# Altium footprint library PcbLib1.PcbLib: 4 footprints
Each footprint in its own frame and in the unit in brackets; x right, y up, seen from the top. Pads: shape width x height; smd on the part's side, far side on the other; paste and mask are expansions set on the pad; w line width, h text height; cw(c..) or ccw(c..) is an arc to the next point about the centre after c.
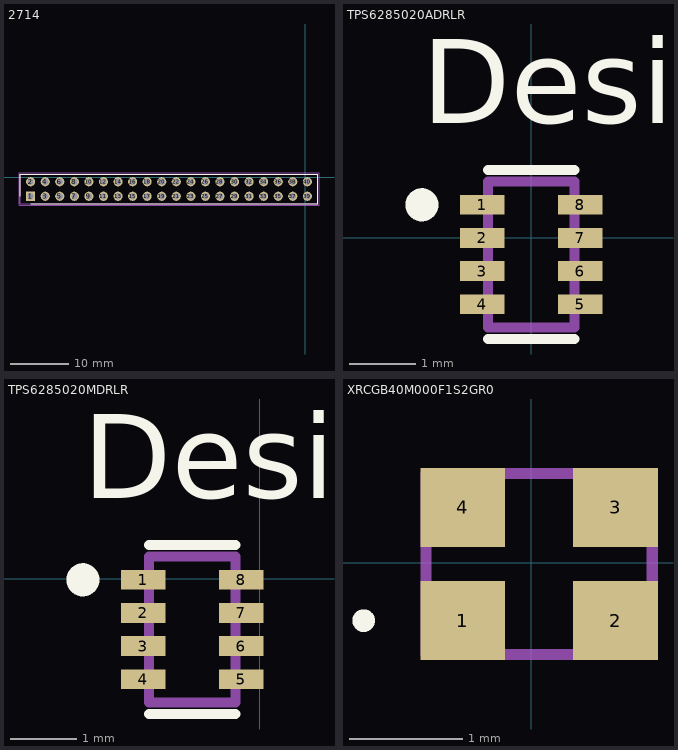
[diagram p0: the footprints below, top view; thin cyan lines are the x and y axes]

## 2714 [mm]
pads (40):
  rect 1.575x1.575 / inner round 1.575 / far side rect 1.575x1.575 hole 1.05: 1(-47.117,-3.302)
  round 1.575 hole 1.05: 2(-47.117,-0.802) 3(-44.617,-3.302) 4(-44.617,-0.802) 5(-42.117,-3.302) 6(-42.117,-0.802) 7(-39.617,-3.302) 8(-39.617,-0.802) 9(-37.117,-3.302) 10(-37.117,-0.802) 11(-34.617,-3.302) 12(-34.617,-0.802) 13(-32.117,-3.302) 14(-32.117,-0.802) 15(-29.617,-3.302) 16(-29.617,-0.802) 17(-27.117,-3.302) 18(-27.117,-0.802) 19(-24.617,-3.302) 20(-24.617,-0.802) 21(-22.117,-3.302) 22(-22.117,-0.802) 23(-19.617,-3.302) 24(-19.617,-0.802) 25(-17.117,-3.302) 26(-17.117,-0.802) 27(-14.617,-3.302) 28(-14.617,-0.802) 29(-12.117,-3.302) 30(-12.117,-0.802) 31(-9.617,-3.302) 32(-9.617,-0.802) 33(-7.117,-3.302) 34(-7.117,-0.802) 35(-4.617,-3.302) 36(-4.617,-0.802) 37(-2.117,-3.302) 38(-2.117,-0.802) 39(0.383,-3.302) 40(0.383,-0.802)
Top Overlay:
  lines w0.2: -48.867,-3.302 -48.867,0.448 2.133,0.448 2.133,-4.552 -47.117,-4.552
Mechanical 13:
  lines w0.05: -49.117,-4.802 -49.117,0.698 2.383,0.698 2.383,-4.802 -49.117,-4.802
  lines w0.1: -48.867,-4.552 -48.867,0.448 2.133,0.448 2.133,-4.552 -48.867,-4.552

## TPS6285020ADRLR [mm]
pads (8):
  rect 0.67x0.3 smd paste+0 mask+0: 1(-0.74,0.496) 2(-0.74,-0.004) 3(-0.74,-0.504) 4(-0.74,-1.004) 5(0.74,-1.004) 6(0.74,-0.504) 7(0.74,-0.004) 8(0.74,0.496)
Top Overlay:
  circle w0.25: c-1.65,0.496 r0.125
  lines w0.15: -0.65,-1.529 0.65,-1.529 ; -0.65,1.021 0.65,1.021
  text ".Designator" at -3.492,-0.889 h1.27
  text "Designator342" at -1.651,1.727 h1.27
Mechanical 13:
  lines w0.15: -0.65,-1.354 0.65,-1.354 0.65,0.846 -0.65,0.846 -0.65,-1.354
  text ".Designator" at -3.492,-0.889 h1.27

## TPS6285020MDRLR [mm]
pads (8):
  rect 0.67x0.3 smd paste+0 mask+0: 1(-1.756,-0.012) 2(-1.756,-0.512) 3(-1.756,-1.012) 4(-1.756,-1.512) 5(-0.276,-1.512) 6(-0.276,-1.012) 7(-0.276,-0.512) 8(-0.276,-0.012)
Top Overlay:
  circle w0.25: c-2.666,-0.012 r0.125
  lines w0.15: -1.666,-2.037 -0.366,-2.037 ; -1.666,0.513 -0.366,0.513
  text ".Designator" at -4.508,-1.397 h1.27
  text "Designator331" at -2.667,1.219 h1.27
Mechanical 13:
  lines w0.15: -1.666,-1.862 -1.666,0.338 -0.366,0.338 -0.366,-1.862 -1.666,-1.862
  text ".Designator" at -4.508,-1.397 h1.27

## XRCGB40M000F1S2GR0 [mm]
pads (4):
  rect 0.75x0.7 smd: 1(-0.605,-0.51) 2(0.745,-0.51) 3(0.745,0.49) 4(-0.605,0.49)
Top Overlay:
  lines w0.1: -1.53,-0.51 ccw(c-1.48,-0.51) -1.43,-0.51 ccw(c-1.48,-0.51) -1.53,-0.51
Mechanical 15:
  lines w0.1: -0.93,-0.81 1.07,-0.81 1.07,0.79 -0.93,0.79 -0.93,-0.81